# EAGLE library part LM2903M (library LM2903M)
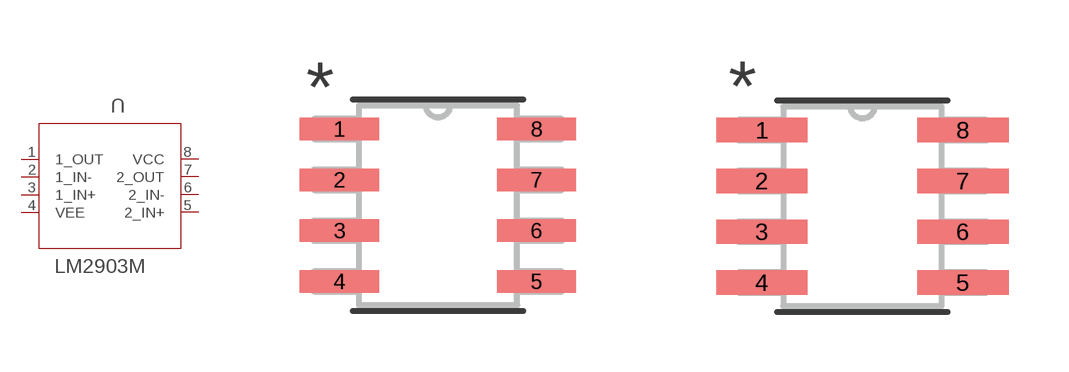
[diagram p0: symbol with the pads of M08A; footprints M08A, M08A-M]

Designator prefix U

## LM2903M (MANUFACTURER_PART_NUMBER: LM2903M; VENDOR: Texas Instruments)  [M08A]
1  1_OUT  pas
2  1_IN-  pas
3  1_IN+  pas
4  VEE  pas
5  2_IN+  pas
6  2_IN-  pas
7  2_OUT  pas
8  VCC  pas

## LM2903MM08A-M (MANUFACTURER_PART_NUMBER: LM2903M; VENDOR: Texas Instruments)  [M08A-M]
Pads as for M08A

## LM2903MM08A-L (MANUFACTURER_PART_NUMBER: LM2903M; VENDOR: Texas Instruments)  [M08A-L]
Pads as for M08A

## Footprint M08A (pad centres in mm)
smd 1.981 x 0.559: 1 -2.464,1.905; 2 -2.464,0.635; 3 -2.464,-0.635; 4 -2.464,-1.905; 5 2.464,-1.905; 6 2.464,-0.635; 7 2.464,0.635; 8 2.464,1.905

## Footprint M08A-M (pad centres in mm)
smd 2.286 x 0.61: 1 -2.515,1.905; 2 -2.515,0.635; 3 -2.515,-0.635; 4 -2.515,-1.905; 5 2.515,-1.905; 6 2.515,-0.635; 7 2.515,0.635; 8 2.515,1.905

## Footprint M08A-L (pad centres in mm)
smd 1.676 x 0.508: 1 -2.413,1.905; 2 -2.413,0.635; 3 -2.413,-0.635; 4 -2.413,-1.905; 5 2.413,-1.905; 6 2.413,-0.635; 7 2.413,0.635; 8 2.413,1.905